# Altium footprint library OSCCC250X200X70L70X80N.PcbLib: 1 footprints
Each footprint in its own frame and in the unit in brackets; x right, y up, seen from the top. Pads: shape width x height; smd on the part's side, far side on the other; paste and mask are expansions set on the pad; w line width, h text height; cw(c..) or ccw(c..) is an arc to the next point about the centre after c.
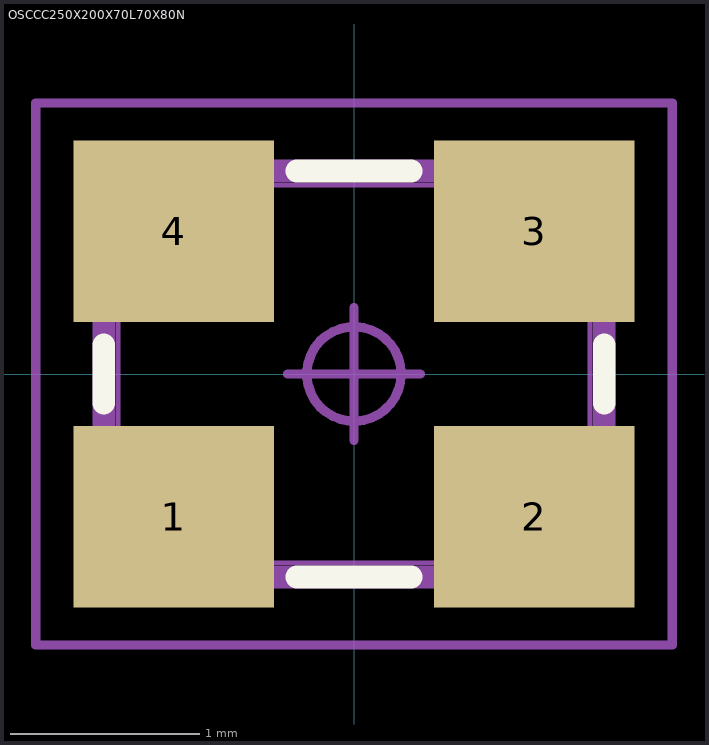
[diagram p0: the footprint, top view; thin cyan lines are the x and y axes]

## OSCCC250X200X70L70X80N [mm] "Oscillator, Corner Concave; 2.50 mm L X 2.00 mm W X 0.80 mm H Body"
height 0.8
pads (4):
  rect 1.061x0.961 smd: 1(-0.955,-0.755) 2(0.955,-0.755) 3(0.955,0.755) 4(-0.955,0.755)
Top Overlay:
  lines w0.12: -1.325,-0.154 -1.325,0.154 ; -0.304,-1.075 0.304,-1.075 ; -0.304,1.075 0.304,1.075 ; 1.325,-0.154 1.325,0.154
Mechanical 3:
  lines w0.12: -1.325,-0.453 -1.325,1.075 1.325,1.075 1.325,-1.075 -0.703,-1.075 -1.325,-0.453
Mechanical 5:
  lines w0.025: -1.25,-1 1.25,-1 ; -1.25,-1 -1.25,1 ; -1.25,-1 -1.25,-0.3 -0.45,-0.3 -0.45,-1 -1.25,-1 ; -1.25,1 1.25,1 ; -1.25,1 -0.45,1 -0.45,0.3 -1.25,0.3 -1.25,1 ; 1.25,-1 1.25,1 ; 1.25,-1 0.45,-1 0.45,-0.3 1.25,-0.3 1.25,-1 ; 1.25,1 1.25,0.3 0.45,0.3 0.45,1 1.25,1
Mechanical 7:
  circle w0.05: c0,0 r0.25
  lines w0.05: -0.35,0 0.35,0 ; 0,-0.35 0,0.35 ; -1.685,-1.435 1.685,-1.435 1.685,1.435 -1.685,1.435 -1.685,-1.435
Mechanical 9:
  text "'.Designator'" at -5.69,-0.271 h1.02
3D body "OSCCC250X200X70L70X80.STEP": height 0.8, standoff 0, extent -1.25,-1 1.25,1
3D body: height 23.4, standoff -5, extent -1.685,-1.435 1.685,1.435